# EAGLE library part UPDUINO2P1 (library StarLiteLib)
UPduino v2.1 Board
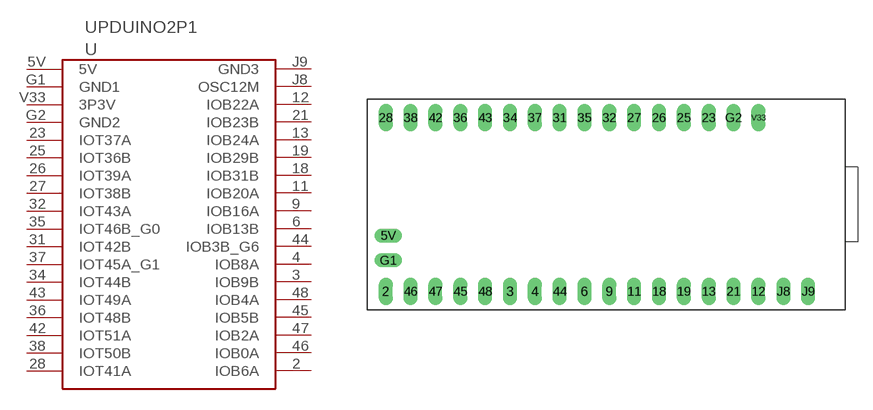
[diagram p5: symbol with the pads of UPDUINO2P1; footprint UPDUINO2P1]

Designator prefix -

## UPDUINO2P1"  [UPDUINO2P1]
2  IOB6A
3  IOB9B
4  IOB8A
5V  5V  pwr
6  IOB13B
9  IOB16A
11  IOB20A
12  IOB22A
13  IOB24A
18  IOB31B
19  IOB29B
21  IOB23B
23  IOT37A
25  IOT36B
26  IOT39A
27  IOT38B
28  IOT41A
31  IOT42B
32  IOT43A
34  IOT44B
35  IOT46B_G0
36  IOT48B
37  IOT45A_G1
38  IOT50B
42  IOT51A
43  IOT49A
44  IOB3B_G6
45  IOB5B
46  IOB0A
47  IOB2A
48  IOB4A
G1  GND1  pwr
G2  GND2  pwr
J8  OSC12M
J9  GND3  pwr
V33  3P3V  pas

## Footprint UPDUINO2P1 (pad centres in mm)
Dual In Line Package 0.7 inch
drill 0.9 long: 2 -24.13,-7.62; 3 -11.43,-7.62; 4 -8.89,-7.62; 5V -23.876,-1.905; 6 -3.81,-7.62; 9 -1.27,-7.62; 11 1.27,-7.62; 12 13.97,-7.62; 13 8.89,-7.62; 18 3.81,-7.62; 19 6.35,-7.62; 21 11.43,-7.62; 23 8.89,10.16; 25 6.35,10.16; 26 3.81,10.16; 27 1.27,10.16; 28 -24.13,10.16; 31 -6.35,10.16; 32 -1.27,10.16; 34 -11.43,10.16; 35 -3.81,10.16; 36 -16.51,10.16; 37 -8.89,10.16; 38 -21.59,10.16; 42 -19.05,10.16; 43 -13.97,10.16; 44 -6.35,-7.62; 45 -16.51,-7.62; 46 -21.59,-7.62; 47 -19.05,-7.62; 48 -13.97,-7.62; G1 -23.876,-4.445; G2 11.43,10.16; J8 16.51,-7.62; J9 19.05,-7.62; V33 13.97,10.16